# EAGLE library part RF_RECIEVER (library MAAV_Roomba)
FEMALE HEADER
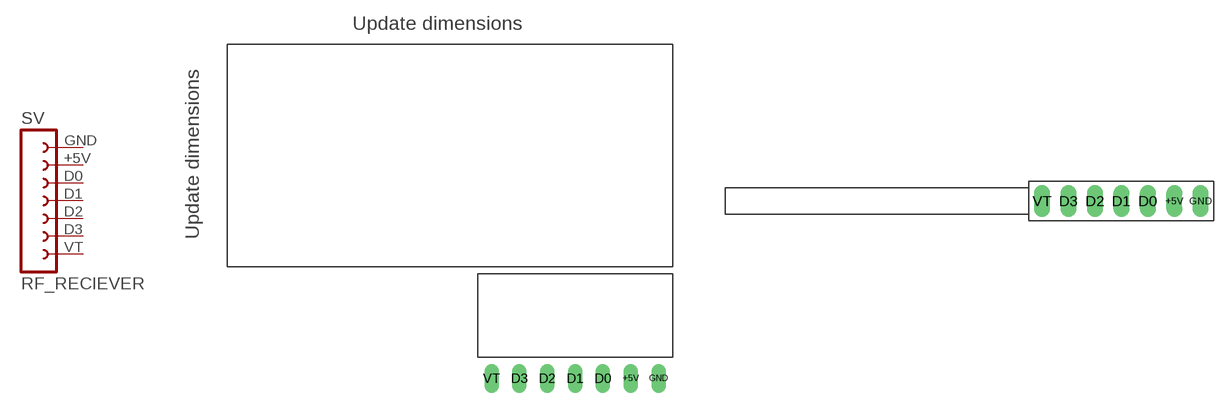
[diagram p1: symbol with the pads of RF_RECIEVER_FLAT; footprints RF_RECIEVER_FLAT, RF_RECIEVER_VERT]

Designator prefix SV

## RF_RECIEVER_FLAT (DIGIKEY#: S5482-ND; MF: Sullins; MPN: PPPC071LGBN-RC)  [RF_RECIEVER_FLAT]
+5V  +5V  pwr
D0  D0
D1  D1
D2  D2
D3  D3
GND  GND  pwr
VT  VT  pas

## RF_RECIEVER_VERT (DIGIKEY#: S7005-ND; MF: Sulins; MPN: PPTC071LFBN-RC)  [RF_RECIEVER_VERT]
Pads as for RF_RECIEVER_FLAT

## Footprint RF_RECIEVER_FLAT (pad centres in mm)
FEMALE HEADER
drill 0.813 long: +5V 5.08,0; D0 2.54,0; D1 0,0; D2 -2.54,0; D3 -5.08,0; GND 7.62,0; VT -7.62,0

## Footprint RF_RECIEVER_VERT (pad centres in mm)
drill 1.016 long: +5V 5.08,0; D0 2.54,0; D1 0,0; D2 -2.54,0; D3 -5.08,0; GND 7.62,0; VT -7.62,0